# Altium footprint library IFX-PG-IQFN-42-1-V.PcbLib: 1 footprints
Each footprint in its own frame and in the unit in brackets; x right, y up, seen from the top. Pads: shape width x height; smd on the part's side, far side on the other; paste and mask are expansions set on the pad; w line width, h text height; cw(c..) or ccw(c..) is an arc to the next point about the centre after c.
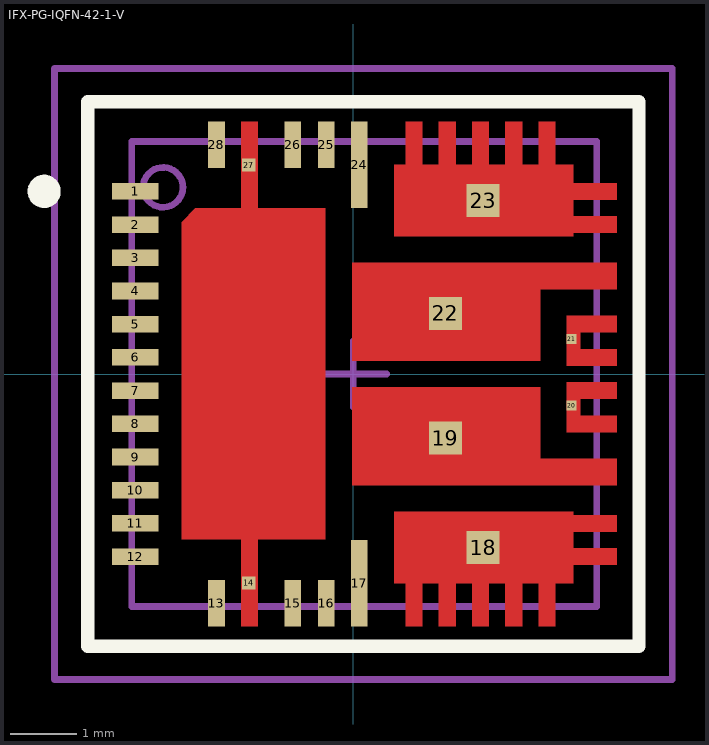
[diagram p0: the footprint, top view; thin cyan lines are the x and y axes]

## IFX-PG-IQFN-42-1-V [mm] "QFN; 28 pin, 7.00 mm L X 7.00 mm W X 1.00 mm H body"
height 1
pads (28):
  rect 0.7x0.25 smd paste-0.125 mask+0: 1(-3.286,2.75) 2(-3.286,2.25) 3(-3.286,1.75) 4(-3.286,1.25) 5(-3.286,0.75) 6(-3.286,0.25) 7(-3.286,-0.25) 8(-3.286,-0.75) 9(-3.286,-1.25) 10(-3.286,-1.75) 11(-3.286,-2.25) 12(-3.286,-2.75)
  rect 0.25x0.7 smd paste-0.125 mask+0: 13(-2.061,-3.45) 15(-0.911,-3.45) 16(-0.411,-3.45) 25(-0.411,3.45) 26(-0.911,3.45) 28(-2.061,3.45)
  rect 0.2x0.2 smd paste-0.1 mask+0: 14(-1.573,-3.146) 27(-1.573,3.146)
  rect 0.25x1.3 smd paste-0.125 mask+0: 17(0.089,-3.15) 24(0.089,3.15)
  rect 0.5x0.5 smd paste-0.25 mask+0: 18(1.952,-2.613) 19(1.385,-0.964) 22(1.385,0.912) 23(1.952,2.612)
  rect 0.15x0.15 smd paste-0.075 mask+0: 20(3.286,-0.475) 21(3.286,0.525)
Top Layer:
  region: 3.214,0.875 3.964,0.875 3.964,0.625 3.414,0.625 3.414,0.375 3.964,0.375 3.964,0.125 3.214,0.125
  region: 3.214,-0.125 3.964,-0.125 3.964,-0.375 3.414,-0.375 3.414,-0.625 3.964,-0.625 3.964,-0.875 3.214,-0.875
  region: 0.614,3.15 0.789,3.15 0.789,3.8 1.039,3.8 1.039,3.15 1.289,3.15 1.289,3.8 1.539,3.8 1.539,3.15 1.789,3.15 1.789,3.8 2.039,3.8 2.039,3.15 2.289,3.15 2.289,3.8 2.539,3.8 2.539,3.15 2.789,3.15 2.789,3.8 3.039,3.8 3.039,3.15 3.314,3.15 3.314,2.875 3.964,2.875 3.964,2.625 3.314,2.625 3.314,2.375 3.964,2.375 3.964,2.125 3.314,2.125 3.314,2.075 0.614,2.075
  region: 0.614,-2.075 0.614,-3.15 0.789,-3.15 0.789,-3.8 1.039,-3.8 1.039,-3.15 1.289,-3.15 1.289,-3.8 1.539,-3.8 1.539,-3.15 1.789,-3.15 1.789,-3.8 2.039,-3.8 2.039,-3.15 2.289,-3.15 2.289,-3.8 2.539,-3.8 2.539,-3.15 2.789,-3.15 2.789,-3.8 3.039,-3.8 3.039,-3.15 3.314,-3.15 3.314,-2.875 3.964,-2.875 3.964,-2.625 3.314,-2.625 3.314,-2.375 3.964,-2.375 3.964,-2.125 3.314,-2.125 3.314,-2.075
  region: -0.02,-0.201 -0.02,-1.676 3.964,-1.676 3.964,-1.276 2.814,-1.276 2.814,-0.201
  region: -0.02,1.675 -0.02,0.2 2.814,0.2 2.814,1.275 3.964,1.275 3.964,1.675
  region: -1.436,3.801 -1.436,2.492 -0.42,2.492 -0.42,-2.49 -1.436,-2.49 -1.436,-3.799 -1.686,-3.799 -1.686,-2.49 -2.583,-2.49 -2.583,2.288 -2.379,2.492 -1.686,2.492 -1.686,3.801
Top Overlay:
  circle w0.25: c-4.656,2.75 r0.125
  lines w0.2: -4,-4.1 4.3,-4.1 4.3,4.1 -4,4.1 -4,-4.1
Top Paste:
  drawing of 66 lines, arcs and shapes, not listed
M3 (ASY_Text_Top):
  text ".DESIGNATOR" at 0,0 h1.2
M13 (CMP_Body_OTL_Top):
  circle w0.1: c-2.866,2.81 r0.3
  lines w0.1: -3.336,-3.5 -3.336,3.5 3.665,3.5 3.665,-3.5 -3.336,-3.5
M15 (CMP_Courtyard_Top):
  lines w0.1: -0.5,0 0.5,0 ; 0,-0.5 0,0.5 ; -4.5,-4.6 -4.5,4.6 4.8,4.6 4.8,-4.6 -4.5,-4.6
3D body "PG-IQFN-42-1_Z8B00190921_V01_3D.stp": height 1, standoff 0, extent -3.336,-3.5 3.664,3.5